# Altium footprint library Tile01.PcbLib: 1 footprints
Each footprint in its own frame and in the unit in brackets; x right, y up, seen from the top. Pads: shape width x height; smd on the part's side, far side on the other; paste and mask are expansions set on the pad; w line width, h text height; cw(c..) or ccw(c..) is an arc to the next point about the centre after c.
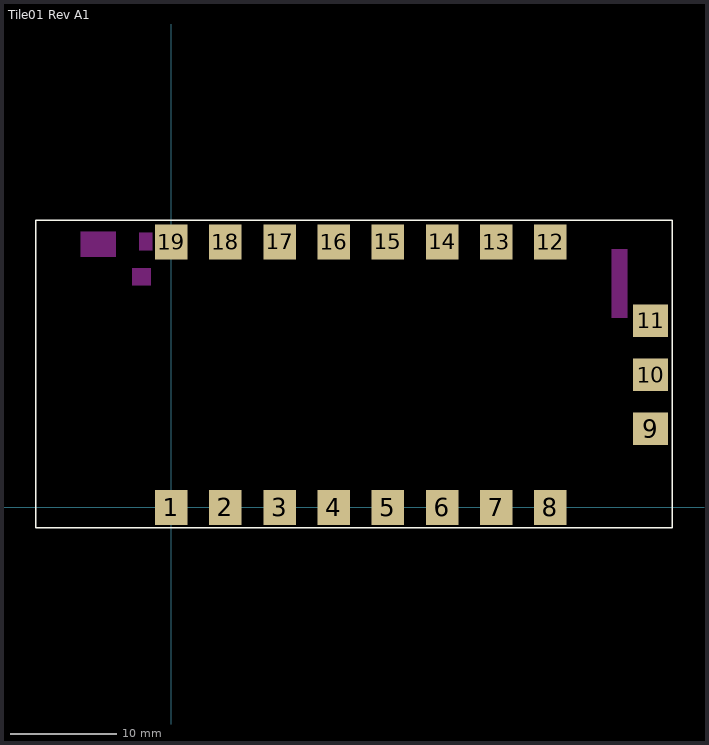
[diagram p0: the footprint, top view; thin cyan lines are the x and y axes]

## Tile01 Rev A1 [mil] "SWARM Tile01: Ax Footprint"
height 236.22
pads (19):
  rect 120x130 smd: 1(0,0) 2(200,0) 3(400,0) 4(600,0) 5(800,0) 6(1000,0) 7(1200,0) 8(1400,0) 12(1400,980) 13(1200,980) 14(1000,980) 15(800,980) 16(600,980) 17(400,980) 18(200,980) 19(0,980)
  rect 130x120 smd: 9(1770,290) 10(1770,490) 11(1770,690)
Top Layer keep-out:
  rectangle: -334.75,924.25 -204.75,1019.25
  rectangle: -119.75,949.25 -69.75,1014.25
  rectangle: 1625.25,699.25 1685.25,954.25
  rectangle: -144.75,819.25 -74.75,884.25
Top Overlay:
  lines w5: -500,-75 1850,-75 1850,1060 -500,1060 -500,-75
3D body "tileBEE_0014-4LAY-PCB_With_Cover_3232020_PV.STEP": height 237.95, standoff 1.73, extent -485,-50.63 1825,1033.31